# Altium footprint library control_pcb_lib.PcbLib: 2 footprints
Each footprint in its own frame and in the unit in brackets; x right, y up, seen from the top. Pads: shape width x height; smd on the part's side, far side on the other; paste and mask are expansions set on the pad; w line width, h text height; cw(c..) or ccw(c..) is an arc to the next point about the centre after c.
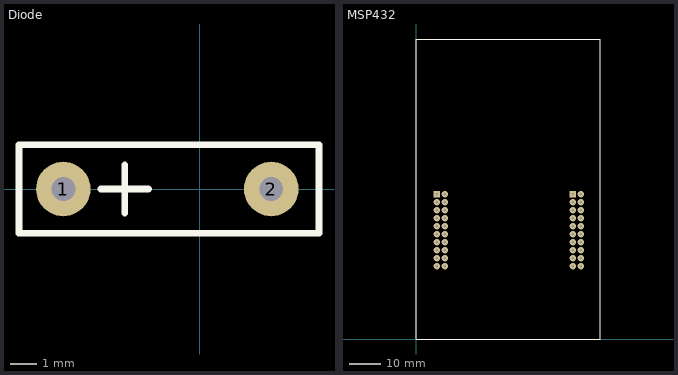
[diagram p0: the footprints below, top view; thin cyan lines are the x and y axes]

## Diode [mil]
pads (2):
  round 80 hole 35: 1(-200,0) 2(105,0)
Top Overlay:
  lines w10: -145,0 -75,0 ; -110,-35 -110,35 ; -265,-65 175,-65 175,65 -265,65 -265,-65

## MSP432 [mil]
pads (40):
  rect 80x80 hole 35: 1(260,1810) 40(1960,1810)
  round 80 hole 35: 2(260,1710) 3(260,1610) 4(260,1510) 5(260,1410) 6(260,1310) 7(260,1210) 8(260,1110) 9(260,1010) 10(260,910) 11(2060,910) 12(2060,1010) 13(2060,1110) 14(2060,1210) 15(2060,1310) 16(2060,1410) 17(2060,1510) 18(2060,1610) 19(2060,1710) 20(2060,1810) 21(360,1810) 22(360,1710) 23(360,1610) 24(360,1510) 25(360,1410) 26(360,1310) 27(360,1210) 28(360,1110) 29(360,1010) 30(360,910) 31(1960,910) 32(1960,1010) 33(1960,1110) 34(1960,1210) 35(1960,1310) 36(1960,1410) 37(1960,1510) 38(1960,1610) 39(1960,1710)
Top Overlay:
  lines w10: 0,0 260,0 2300,0 2300,3750 0,3750 0,0